# Altium integrated library NSC Amplifier.IntLib: 719 symbols (part 9 of 19)
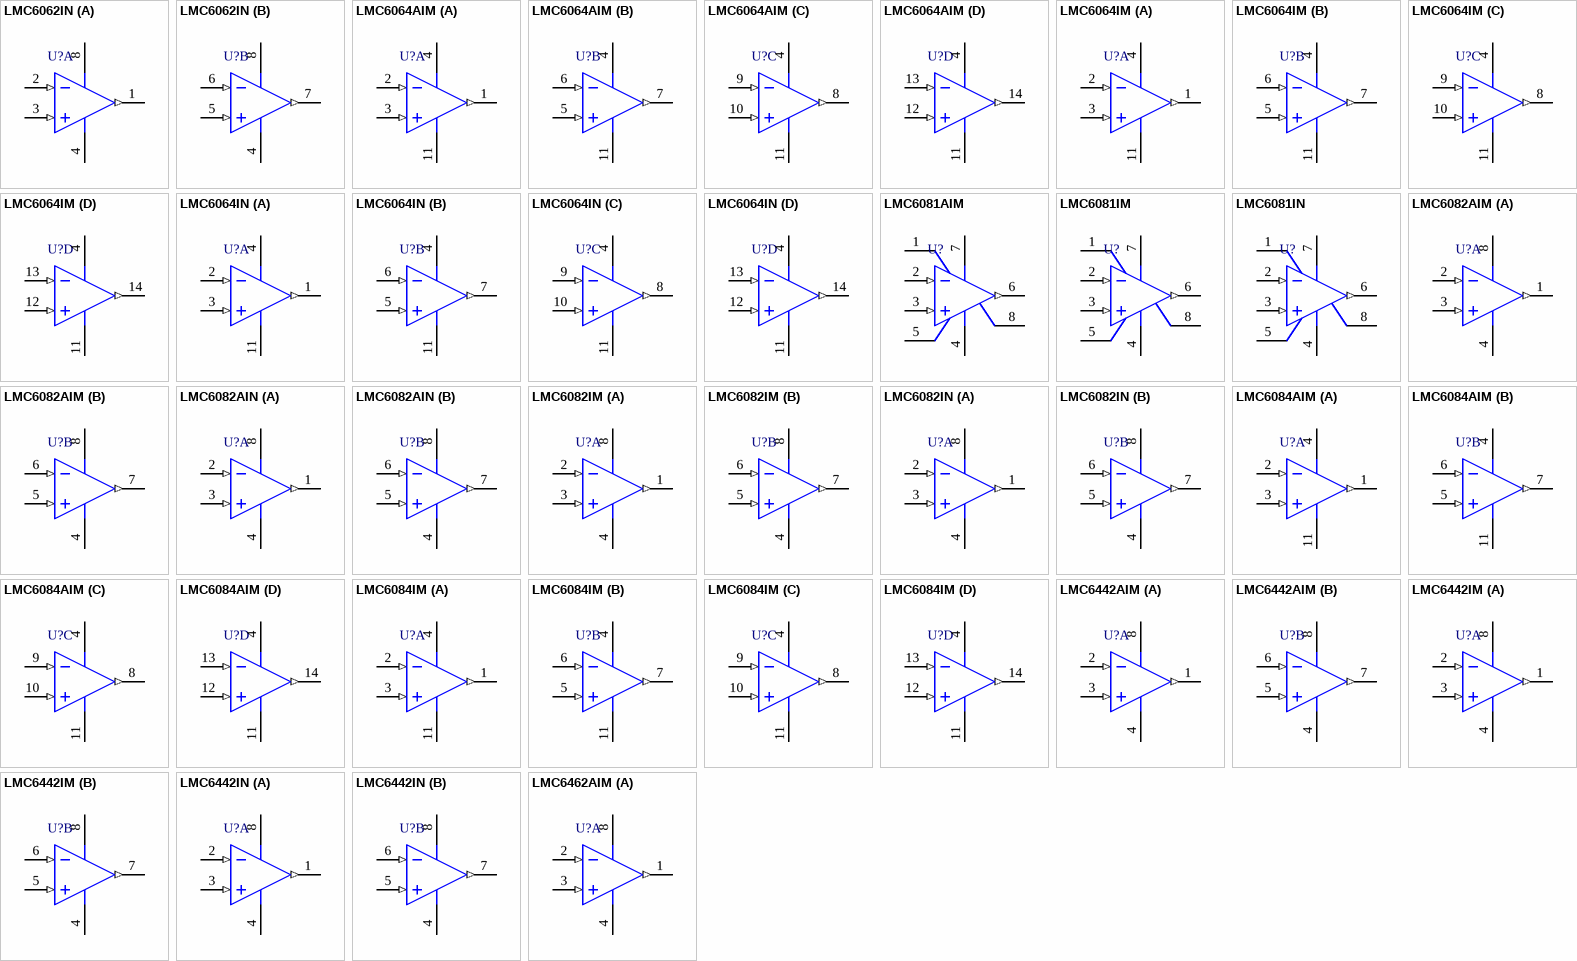
[diagram p46: symbols LMC6062IN to LMC6462AIM]

## LMC6062IN
designator U?
Precision CMOS Dual Micropower Operational Amplifier; PartNumber: LMC6062IN; Manufacturer: National Semiconductor; CompType: Amplifiers; PackageTopMarking: NSUZXYTT*LMC6062*IN; Published: 4-Dec-2008; LatestRevisionDate: 13-Jan-2009; LatestRevisionNote: Sim Model Added.; DatasheetVersion: Feb-2001; PackageVersion: revG, May-2006; PackageReference: N08E; Publisher: Altium Limited; PackageDescription: MDIP, .365 x .250 x .130in, 8 Lead, .100in Pitch; RoHS: Y; PinCount: 8; DigiKeyPartNumber: LMC6062IN-ND; Code_JEDEC: MS-001-BA; ComponentLink1Description: LMC6062 Datasheet; ComponentLink1URL: http://www.national.com/ds/LM/LMC6062.pdf; ComponentLink2Description: LMC6062 Web Page; ComponentLink2URL: http://www.national.com/pf/LM/LMC6062.html; ComponentLink3Description: N08E Package Page; ComponentLink3URL: http://www.national.com/packaging/folders/n08e.html
footprint N08E (DIP, 8-Leads, Row Spacing 7.62mm, Pitch 2.54mm, Body 9.91x6.35mm)
simulation model LMC6062B (SUBCKT)
pins on every part: 4 V- (power), 8 V+ (power)
part A pins: 1 OUTA (out), 2 INA- (in), 3 INA+ (in)
part B pins: 5 INB+ (in), 6 INB- (in), 7 OUTB (out)

## LMC6064AIM
designator U?
Precision CMOS Quad Micropower Operational Amplifier; PartNumber: LMC6064AIM; Manufacturer: National Semiconductor; CompType: Amplifiers; PackageTopMarking: NSUZXYTT*LMC6064*AIM; Published: 4-Dec-2008; LatestRevisionDate: 13-Jan-2009; LatestRevisionNote: Sim Model Added.; DatasheetVersion: Apr-2001; PackageVersion: revJ, Jan-1996; PackageReference: M14A; Publisher: Altium Limited; PackageDescription: Molded Package S.O., .150in Wide, 14 Lead; RoHS: O; PinCount: 14; DigiKeyPartNumber: LMC6064AIM-ND; Code_JEDEC: MS-012AB; Code_IPC: SOIC127P600-14; ComponentLink1Description: LMC6064 Datasheet; ComponentLink1URL: http://www.national.com/ds/LM/LMC6064.pdf; ComponentLink2Description: LMC6064 Web Page; ComponentLink2URL: http://www.national.com/pf/LM/LMC6064.html; ComponentLink3Description: M14A Package Page; ComponentLink3URL: http://www.national.com/packaging/folders/m14a.html
footprint M14A_N (SOIC, 14-Leads, Body 8.6x3.9mm, Pitch 1.27mm, IPC Medium Density)
footprint M14A_L (SOIC, 14-Leads, Body 8.6x3.9mm, Pitch 1.27mm, IPC High Density)
footprint M14A_M (SOIC, 14-Leads, Body 8.6x3.9mm, Pitch 1.27mm, IPC Low Density)
simulation model LMC6064A (SUBCKT)
pins on every part: 4 V+ (power), 11 V- (power)
part A pins: 1 OUT1 (out), 2 IN1- (in), 3 IN1+ (in)
part B pins: 5 IN2+ (in), 6 IN2- (in), 7 OUT2 (out)
part C pins: 8 OUT3 (out), 9 IN3- (in), 10 IN3+ (in)
part D pins: 12 IN4+ (in), 13 IN4- (in), 14 OUT4 (out)

## LMC6064IM
designator U?
Precision CMOS Quad Micropower Operational Amplifier; PartNumber: LMC6064IM; Manufacturer: National Semiconductor; CompType: Amplifiers; PackageTopMarking: NSUZXYTT*LMC6064IM; Published: 4-Dec-2008; LatestRevisionDate: 13-Jan-2009; LatestRevisionNote: Sim Model Added.; DatasheetVersion: Apr-2001; PackageVersion: revJ, Jan-1996; PackageReference: M14A; Publisher: Altium Limited; PackageDescription: Molded Package S.O., .150in Wide, 14 Lead; RoHS: Y; PinCount: 14; DigiKeyPartNumber: LMC6064IM-ND; Code_JEDEC: MS-012AB; Code_IPC: SOIC127P600-14; ComponentLink1Description: LMC6064 Datasheet; ComponentLink1URL: http://www.national.com/ds/LM/LMC6064.pdf; ComponentLink2Description: LMC6064 Web Page; ComponentLink2URL: http://www.national.com/pf/LM/LMC6064.html; ComponentLink3Description: M14A Package Page; ComponentLink3URL: http://www.national.com/packaging/folders/m14a.html
footprint M14A_N (SOIC, 14-Leads, Body 8.6x3.9mm, Pitch 1.27mm, IPC Medium Density)
footprint M14A_L (SOIC, 14-Leads, Body 8.6x3.9mm, Pitch 1.27mm, IPC High Density)
footprint M14A_M (SOIC, 14-Leads, Body 8.6x3.9mm, Pitch 1.27mm, IPC Low Density)
simulation model LMC6064B (SUBCKT)
pins on every part: 4 V+ (power), 11 V- (power)
part A pins: 1 OUT1 (out), 2 IN1- (in), 3 IN1+ (in)
part B pins: 5 IN2+ (in), 6 IN2- (in), 7 OUT2 (out)
part C pins: 8 OUT3 (out), 9 IN3- (in), 10 IN3+ (in)
part D pins: 12 IN4+ (in), 13 IN4- (in), 14 OUT4 (out)

## LMC6064IN
designator U?
Precision CMOS Quad Micropower Operational Amplifier; PartNumber: LMC6064IN; Manufacturer: National Semiconductor; CompType: Amplifiers; PackageTopMarking: NSUZXYYTTE#*LMC6064IN; Published: 4-Dec-2008; LatestRevisionDate: 13-Jan-2009; LatestRevisionNote: Sim Model Added.; DatasheetVersion: Apr-2001; PackageVersion: revG, May-2006; PackageReference: N14A; Publisher: Altium Limited; PackageDescription: MDIP, .750 x .250 x.130in, 14 Lead, .100in Pitch; RoHS: O; PinCount: 14; DigiKeyPartNumber: LMC6064IN-ND; Code_JEDEC: MS-001-AA; ComponentLink1Description: LMC6064 Datasheet; ComponentLink1URL: http://www.national.com/ds/LM/LMC6064.pdf; ComponentLink2Description: LMC6064 Web Page; ComponentLink2URL: http://www.national.com/pf/LM/LMC6064.html; ComponentLink3Description: N14A Package Page; ComponentLink3URL: http://www.national.com/packaging/folders/n14a.html
footprint N14A (DIP, 14-Leads, Row Spacing 7.62mm, Pitch 2.54mm, Body 19.56x6.35mm)
simulation model LMC6064B (SUBCKT)
pins on every part: 4 V+ (power), 11 V- (power)
part A pins: 1 OUT1 (out), 2 IN1- (in), 3 IN1+ (in)
part B pins: 5 IN2+ (in), 6 IN2- (in), 7 OUT2 (out)
part C pins: 8 OUT3 (out), 9 IN3- (in), 10 IN3+ (in)
part D pins: 12 IN4+ (in), 13 IN4- (in), 14 OUT4 (out)

## LMC6081AIM
designator U?
Precision CMOS Single Operational Amplifier; PartNumber: LMC6081AIM; Manufacturer: National Semiconductor; CompType: Amplifiers; PackageTopMarking: NSZXTT*LMC60*81AIM; Published: 4-Dec-2008; LatestRevisionDate: 13-Jan-2009; LatestRevisionNote: Sim Model Added.; DatasheetVersion: Aug-2000; PackageVersion: revL, Sep-2006; PackageReference: M08A; Publisher: Altium Limited; PackageDescription: SOIC Narrow, 4.9 x 3.9 x 1.45mm, 8 Lead, 1.27mm Pitch; RoHS: O; PinCount: 8; DigiKeyPartNumber: LMC6081AIM-ND; Code_JEDEC: MS-012-AA; Code_IPC: SOIC127P600-8; ComponentLink1Description: LMC6081 Datasheet; ComponentLink1URL: http://www.national.com/ds/LM/LMC6081.pdf; ComponentLink2Description: LMC6081 Web Page; ComponentLink2URL: http://www.national.com/pf/LM/LMC6081.html; ComponentLink3Description: M08A Package Page; ComponentLink3URL: http://www.national.com/packaging/folders/m08a.html
footprint M08A_N (SOIC, 8-Leads, Body 4.9x3.9mm, Pitch 1.27mm, IPC Medium Density)
footprint M08A_L (SOIC, 8-Leads, Body 4.9x3.9mm, Pitch 1.27mm, IPC High Density)
footprint M08A_M (SOIC, 8-Leads, Body 4.9x3.9mm, Pitch 1.27mm, IPC Low Density)
simulation model LMC6081A (SUBCKT)
pins: 1 NC, 2 IN- (in), 3 IN+ (in), 4 V- (power), 5 NC, 6 OUT (out), 7 V+ (power), 8 NC

## LMC6081IM
designator U?
Precision CMOS Single Operational Amplifier; PartNumber: LMC6081IM; Manufacturer: National Semiconductor; CompType: Amplifiers; PackageTopMarking: NSZXTT*LMC60*81IM; Published: 4-Dec-2008; LatestRevisionDate: 13-Jan-2009; LatestRevisionNote: Sim Model Added.; DatasheetVersion: Aug-2000; PackageVersion: revL, Sep-2006; PackageReference: M08A; Publisher: Altium Limited; PackageDescription: SOIC Narrow, 4.9 x 3.9 x 1.45mm, 8 Lead, 1.27mm Pitch; RoHS: Y; PinCount: 8; DigiKeyPartNumber: LMC6081IM-ND; Code_JEDEC: MS-012-AA; Code_IPC: SOIC127P600-8; ComponentLink1Description: LMC6081 Datasheet; ComponentLink1URL: http://www.national.com/ds/LM/LMC6081.pdf; ComponentLink2Description: LMC6081 Web Page; ComponentLink2URL: http://www.national.com/pf/LM/LMC6081.html; ComponentLink3Description: M08A Package Page; ComponentLink3URL: http://www.national.com/packaging/folders/m08a.html
footprint M08A_N (SOIC, 8-Leads, Body 4.9x3.9mm, Pitch 1.27mm, IPC Medium Density)
footprint M08A_L (SOIC, 8-Leads, Body 4.9x3.9mm, Pitch 1.27mm, IPC High Density)
footprint M08A_M (SOIC, 8-Leads, Body 4.9x3.9mm, Pitch 1.27mm, IPC Low Density)
simulation model LMC6081B (SUBCKT)
pins: 1 NC, 2 IN- (in), 3 IN+ (in), 4 V- (power), 5 NC, 6 OUT (out), 7 V+ (power), 8 NC

## LMC6081IN
designator U?
Precision CMOS Single Operational Amplifier; PartNumber: LMC6081IN; Manufacturer: National Semiconductor; CompType: Amplifiers; PackageTopMarking: NSUZXYTT*LMC6081*IN; Published: 4-Dec-2008; LatestRevisionDate: 13-Jan-2009; LatestRevisionNote: Sim Model Added.; DatasheetVersion: Aug-2000; PackageVersion: revG, May-2006; PackageReference: N08E; Publisher: Altium Limited; PackageDescription: MDIP, .365 x .250 x .130in, 8 Lead, .100in Pitch; RoHS: O; PinCount: 8; DigiKeyPartNumber: LMC6081IN-ND; Code_JEDEC: MS-001-BA; ComponentLink1Description: LMC6081 Datasheet; ComponentLink1URL: http://www.national.com/ds/LM/LMC6081.pdf; ComponentLink2Description: LMC6081 Web Page; ComponentLink2URL: http://www.national.com/pf/LM/LMC6081.html; ComponentLink3Description: N08E Package Page; ComponentLink3URL: http://www.national.com/packaging/folders/n08e.html
footprint N08E (DIP, 8-Leads, Row Spacing 7.62mm, Pitch 2.54mm, Body 9.91x6.35mm)
simulation model LMC6081B (SUBCKT)
pins: 1 NC, 2 IN- (in), 3 IN+ (in), 4 V- (power), 5 NC, 6 OUT (out), 7 V+ (power), 8 NC

## LMC6082AIM
designator U?
Precision CMOS Dual Operational Amplifier; PartNumber: LMC6082AIM; Manufacturer: National Semiconductor; CompType: Amplifiers; PackageTopMarking: NSZXTT*LMC60*82AIM; Published: 4-Dec-2008; LatestRevisionDate: 13-Jan-2009; LatestRevisionNote: Sim Model Added.; DatasheetVersion: Aug-2000; PackageVersion: revL, Sep-2006; PackageReference: M08A; Publisher: Altium Limited; PackageDescription: SOIC Narrow, 4.9 x 3.9 x 1.45mm, 8 Lead, 1.27mm Pitch; RoHS: O; PinCount: 8; DigiKeyPartNumber: LMC6082AIM-ND; Code_JEDEC: MS-012-AA; Code_IPC: SOIC127P600-8; ComponentLink1Description: LMC6082 Datasheet; ComponentLink1URL: http://www.national.com/ds/LM/LMC6082.pdf; ComponentLink2Description: LMC6082 Web Page; ComponentLink2URL: http://www.national.com/pf/LM/LMC6082.html; ComponentLink3Description: M08A Package Page; ComponentLink3URL: http://www.national.com/packaging/folders/m08a.html
footprint M08A_N (SOIC, 8-Leads, Body 4.9x3.9mm, Pitch 1.27mm, IPC Medium Density)
footprint M08A_L (SOIC, 8-Leads, Body 4.9x3.9mm, Pitch 1.27mm, IPC High Density)
footprint M08A_M (SOIC, 8-Leads, Body 4.9x3.9mm, Pitch 1.27mm, IPC Low Density)
simulation model LMC6082A (SUBCKT)
pins on every part: 4 V- (power), 8 V+ (power)
part A pins: 1 OUTA (out), 2 INA- (in), 3 INA+ (in)
part B pins: 5 INB+ (in), 6 INB- (in), 7 OUTB (out)

## LMC6082AIN
designator U?
Precision CMOS Dual Operational Amplifier; PartNumber: LMC6082AIN; Manufacturer: National Semiconductor; CompType: Amplifiers; PackageTopMarking: NSUZXYTT*LMC6082*AIN; Published: 4-Dec-2008; LatestRevisionDate: 13-Jan-2009; LatestRevisionNote: Sim Model Added.; DatasheetVersion: Aug-2000; PackageVersion: revG, May-2006; PackageReference: N08E; Publisher: Altium Limited; PackageDescription: MDIP, .365 x .250 x .130in, 8 Lead, .100in Pitch; RoHS: Y; PinCount: 8; DigiKeyPartNumber: LMC6082AIN-ND; Code_JEDEC: MS-001-BA; ComponentLink1Description: LMC6082 Datasheet; ComponentLink1URL: http://www.national.com/ds/LM/LMC6082.pdf; ComponentLink2Description: LMC6082 Web Page; ComponentLink2URL: http://www.national.com/pf/LM/LMC6082.html; ComponentLink3Description: N08E Package Page; ComponentLink3URL: http://www.national.com/packaging/folders/n08e.html
footprint N08E (DIP, 8-Leads, Row Spacing 7.62mm, Pitch 2.54mm, Body 9.91x6.35mm)
simulation model LMC6082A (SUBCKT)
pins on every part: 4 V- (power), 8 V+ (power)
part A pins: 1 OUTA (out), 2 INA- (in), 3 INA+ (in)
part B pins: 5 INB+ (in), 6 INB- (in), 7 OUTB (out)

## LMC6082IM
designator U?
Precision CMOS Dual Operational Amplifier; PartNumber: LMC6082IM; Manufacturer: National Semiconductor; CompType: Amplifiers; PackageTopMarking: NSZXTT*LMC60*82IM; Published: 4-Dec-2008; LatestRevisionDate: 13-Jan-2009; LatestRevisionNote: Sim Model Added.; DatasheetVersion: Aug-2000; PackageVersion: revL, Sep-2006; PackageReference: M08A; Publisher: Altium Limited; PackageDescription: SOIC Narrow, 4.9 x 3.9 x 1.45mm, 8 Lead, 1.27mm Pitch; RoHS: O; PinCount: 8; DigiKeyPartNumber: LMC6082IM-ND; Code_JEDEC: MS-012-AA; Code_IPC: SOIC127P600-8; ComponentLink1Description: LMC6082 Datasheet; ComponentLink1URL: http://www.national.com/ds/LM/LMC6082.pdf; ComponentLink2Description: LMC6082 Web Page; ComponentLink2URL: http://www.national.com/pf/LM/LMC6082.html; ComponentLink3Description: M08A Package Page; ComponentLink3URL: http://www.national.com/packaging/folders/m08a.html
footprint M08A_N (SOIC, 8-Leads, Body 4.9x3.9mm, Pitch 1.27mm, IPC Medium Density)
footprint M08A_L (SOIC, 8-Leads, Body 4.9x3.9mm, Pitch 1.27mm, IPC High Density)
footprint M08A_M (SOIC, 8-Leads, Body 4.9x3.9mm, Pitch 1.27mm, IPC Low Density)
simulation model LMC6082B (SUBCKT)
pins on every part: 4 V- (power), 8 V+ (power)
part A pins: 1 OUTA (out), 2 INA- (in), 3 INA+ (in)
part B pins: 5 INB+ (in), 6 INB- (in), 7 OUTB (out)

## LMC6082IN
designator U?
Precision CMOS Dual Operational Amplifier; PartNumber: LMC6082IN; Manufacturer: National Semiconductor; CompType: Amplifiers; PackageTopMarking: NSUZXYTT*LMC6082*IN; Published: 4-Dec-2008; LatestRevisionDate: 13-Jan-2009; LatestRevisionNote: Sim Model Added.; DatasheetVersion: Aug-2000; PackageVersion: revG, May-2006; PackageReference: N08E; Publisher: Altium Limited; PackageDescription: MDIP, .365 x .250 x .130in, 8 Lead, .100in Pitch; RoHS: O; PinCount: 8; DigiKeyPartNumber: LMC6082IN-ND; Code_JEDEC: MS-001-BA; ComponentLink1Description: LMC6082 Datasheet; ComponentLink1URL: http://www.national.com/ds/LM/LMC6082.pdf; ComponentLink2Description: LMC6082 Web Page; ComponentLink2URL: http://www.national.com/pf/LM/LMC6082.html; ComponentLink3Description: N08E Package Page; ComponentLink3URL: http://www.national.com/packaging/folders/n08e.html
footprint N08E (DIP, 8-Leads, Row Spacing 7.62mm, Pitch 2.54mm, Body 9.91x6.35mm)
simulation model LMC6082B (SUBCKT)
pins on every part: 4 V- (power), 8 V+ (power)
part A pins: 1 OUTA (out), 2 INA- (in), 3 INA+ (in)
part B pins: 5 INB+ (in), 6 INB- (in), 7 OUTB (out)

## LMC6084AIM
designator U?
Precision CMOS Quad Operational Amplifier; PartNumber: LMC6084AIM; Manufacturer: National Semiconductor; CompType: Amplifiers; PackageTopMarking: NSUZXYTT*LMC6084*AIM; Published: 4-Dec-2008; LatestRevisionDate: 13-Jan-2009; LatestRevisionNote: Sim Model Added.; DatasheetVersion: Aug-2000; PackageVersion: revJ, Jan-1996; PackageReference: M14A; Publisher: Altium Limited; PackageDescription: Molded Package S.O., .150in Wide, 14 Lead; RoHS: O; PinCount: 14; DigiKeyPartNumber: LMC6084AIM-ND; Code_JEDEC: MS-012AB; Code_IPC: SOIC127P600-14; ComponentLink1Description: LMC6084 Datasheet; ComponentLink1URL: http://www.national.com/ds/LM/LMC6084.pdf; ComponentLink2Description: LMC6084 Web Page; ComponentLink2URL: http://www.national.com/pf/LM/LMC6084.html; ComponentLink3Description: M14A Package Page; ComponentLink3URL: http://www.national.com/packaging/folders/m14a.html
footprint M14A_N (SOIC, 14-Leads, Body 8.6x3.9mm, Pitch 1.27mm, IPC Medium Density)
footprint M14A_L (SOIC, 14-Leads, Body 8.6x3.9mm, Pitch 1.27mm, IPC High Density)
footprint M14A_M (SOIC, 14-Leads, Body 8.6x3.9mm, Pitch 1.27mm, IPC Low Density)
simulation model LMC6084A (SUBCKT)
pins on every part: 4 V+ (power), 11 V- (power)
part A pins: 1 OUT1 (out), 2 IN1- (in), 3 IN1+ (in)
part B pins: 5 IN2+ (in), 6 IN2- (in), 7 OUT2 (out)
part C pins: 8 OUT3 (out), 9 IN3- (in), 10 IN3+ (in)
part D pins: 12 IN4+ (in), 13 IN4- (in), 14 OUT4 (out)

## LMC6084IM
designator U?
Precision CMOS Quad Operational Amplifier; PartNumber: LMC6084IM; Manufacturer: National Semiconductor; CompType: Amplifiers; PackageTopMarking: NSUZXYTT*LMC6084IM; Published: 4-Dec-2008; LatestRevisionDate: 13-Jan-2009; LatestRevisionNote: Sim Model Added.; DatasheetVersion: Aug-2000; PackageVersion: revJ, Jan-1996; PackageReference: M14A; Publisher: Altium Limited; PackageDescription: Molded Package S.O., .150in Wide, 14 Lead; RoHS: O; PinCount: 14; DigiKeyPartNumber: LMC6084IM-ND; Code_JEDEC: MS-012AB; Code_IPC: SOIC127P600-14; ComponentLink1Description: LMC6084 Datasheet; ComponentLink1URL: http://www.national.com/ds/LM/LMC6084.pdf; ComponentLink2Description: LMC6084 Web Page; ComponentLink2URL: http://www.national.com/pf/LM/LMC6084.html; ComponentLink3Description: M14A Package Page; ComponentLink3URL: http://www.national.com/packaging/folders/m14a.html
footprint M14A_N (SOIC, 14-Leads, Body 8.6x3.9mm, Pitch 1.27mm, IPC Medium Density)
footprint M14A_L (SOIC, 14-Leads, Body 8.6x3.9mm, Pitch 1.27mm, IPC High Density)
footprint M14A_M (SOIC, 14-Leads, Body 8.6x3.9mm, Pitch 1.27mm, IPC Low Density)
simulation model LMC6084B (SUBCKT)
pins on every part: 4 V+ (power), 11 V- (power)
part A pins: 1 OUT1 (out), 2 IN1- (in), 3 IN1+ (in)
part B pins: 5 IN2+ (in), 6 IN2- (in), 7 OUT2 (out)
part C pins: 8 OUT3 (out), 9 IN3- (in), 10 IN3+ (in)
part D pins: 12 IN4+ (in), 13 IN4- (in), 14 OUT4 (out)

## LMC6442AIM
designator U?
Dual Micropower Rail-to-Rail Output Single Supply Operational Amplifier; PartNumber: LMC6442AIM; Manufacturer: National Semiconductor; CompType: Amplifiers; PackageTopMarking: NSZXTT*LMC64*42AIM; Published: 4-Dec-2008; LatestRevisionDate: 13-Jan-2009; LatestRevisionNote: Sim Model Added.; DatasheetVersion: Mar-2005; PackageVersion: revL, Sep-2006; PackageReference: M08A; Publisher: Altium Limited; PackageDescription: SOIC Narrow, 4.9 x 3.9 x 1.45mm, 8 Lead, 1.27mm Pitch; RoHS: O; PinCount: 8; DigiKeyPartNumber: LMC6442AIMMCT-ND; Code_JEDEC: MS-012-AA; Code_IPC: SOIC127P600-8; ComponentLink1Description: LMC6442 Datasheet; ComponentLink1URL: http://www.national.com/ds/LM/LMC6442.pdf; ComponentLink2Description: LMC6442 Web Page; ComponentLink2URL: http://www.national.com/pf/LM/LMC6442.html; ComponentLink3Description: M08A Package Page; ComponentLink3URL: http://www.national.com/packaging/folders/m08a.html
footprint M08A_N (SOIC, 8-Leads, Body 4.9x3.9mm, Pitch 1.27mm, IPC Medium Density)
footprint M08A_L (SOIC, 8-Leads, Body 4.9x3.9mm, Pitch 1.27mm, IPC High Density)
footprint M08A_M (SOIC, 8-Leads, Body 4.9x3.9mm, Pitch 1.27mm, IPC Low Density)
simulation model LMC6442A (SUBCKT)
pins on every part: 4 V- (power), 8 V+ (power)
part A pins: 1 OUTA (out), 2 INA- (in), 3 INA+ (in)
part B pins: 5 INB+ (in), 6 INB- (in), 7 OUTB (out)

## LMC6442IM
designator U?
Dual Micropower Rail-to-Rail Output Single Supply Operational Amplifier; PartNumber: LMC6442IM; Manufacturer: National Semiconductor; CompType: Amplifiers; PackageTopMarking: NSZXTT*LMC64*42IM; Published: 4-Dec-2008; LatestRevisionDate: 13-Jan-2009; LatestRevisionNote: Sim Model Added.; DatasheetVersion: Mar-2005; PackageVersion: revL, Sep-2006; PackageReference: M08A; Publisher: Altium Limited; PackageDescription: SOIC Narrow, 4.9 x 3.9 x 1.45mm, 8 Lead, 1.27mm Pitch; RoHS: O; PinCount: 8; DigiKeyPartNumber: LMC6442IMMCT-ND; Code_JEDEC: MS-012-AA; Code_IPC: SOIC127P600-8; ComponentLink1Description: LMC6442 Datasheet; ComponentLink1URL: http://www.national.com/ds/LM/LMC6442.pdf; ComponentLink2Description: LMC6442 Web Page; ComponentLink2URL: http://www.national.com/pf/LM/LMC6442.html; ComponentLink3Description: M08A Package Page; ComponentLink3URL: http://www.national.com/packaging/folders/m08a.html
footprint M08A_N (SOIC, 8-Leads, Body 4.9x3.9mm, Pitch 1.27mm, IPC Medium Density)
footprint M08A_L (SOIC, 8-Leads, Body 4.9x3.9mm, Pitch 1.27mm, IPC High Density)
footprint M08A_M (SOIC, 8-Leads, Body 4.9x3.9mm, Pitch 1.27mm, IPC Low Density)
simulation model LMC6442B (SUBCKT)
pins on every part: 4 V- (power), 8 V+ (power)
part A pins: 1 OUTA (out), 2 INA- (in), 3 INA+ (in)
part B pins: 5 INB+ (in), 6 INB- (in), 7 OUTB (out)

## LMC6442IN
designator U?
Dual Micropower Rail-to-Rail Output Single Supply Operational Amplifier; PartNumber: LMC6442IN; Manufacturer: National Semiconductor; CompType: Amplifiers; PackageTopMarking: NSUZXYTT*LMC6442*IN; Published: 4-Dec-2008; LatestRevisionDate: 13-Jan-2009; LatestRevisionNote: Sim Model Added.; DatasheetVersion: Mar-2005; PackageVersion: revG, May-2006; PackageReference: N08E; Publisher: Altium Limited; PackageDescription: MDIP, .365 x .250 x .130in, 8 Lead, .100in Pitch; RoHS: Y; PinCount: 8; DigiKeyPartNumber: LMC6442IN-ND; Code_JEDEC: MS-001-BA; ComponentLink1Description: LMC6442 Datasheet; ComponentLink1URL: http://www.national.com/ds/LM/LMC6442.pdf; ComponentLink2Description: LMC6442 Web Page; ComponentLink2URL: http://www.national.com/pf/LM/LMC6442.html; ComponentLink3Description: N08E Package Page; ComponentLink3URL: http://www.national.com/packaging/folders/n08e.html
footprint N08E (DIP, 8-Leads, Row Spacing 7.62mm, Pitch 2.54mm, Body 9.91x6.35mm)
simulation model LMC6442B (SUBCKT)
pins on every part: 4 V- (power), 8 V+ (power)
part A pins: 1 OUTA (out), 2 INA- (in), 3 INA+ (in)
part B pins: 5 INB+ (in), 6 INB- (in), 7 OUTB (out)

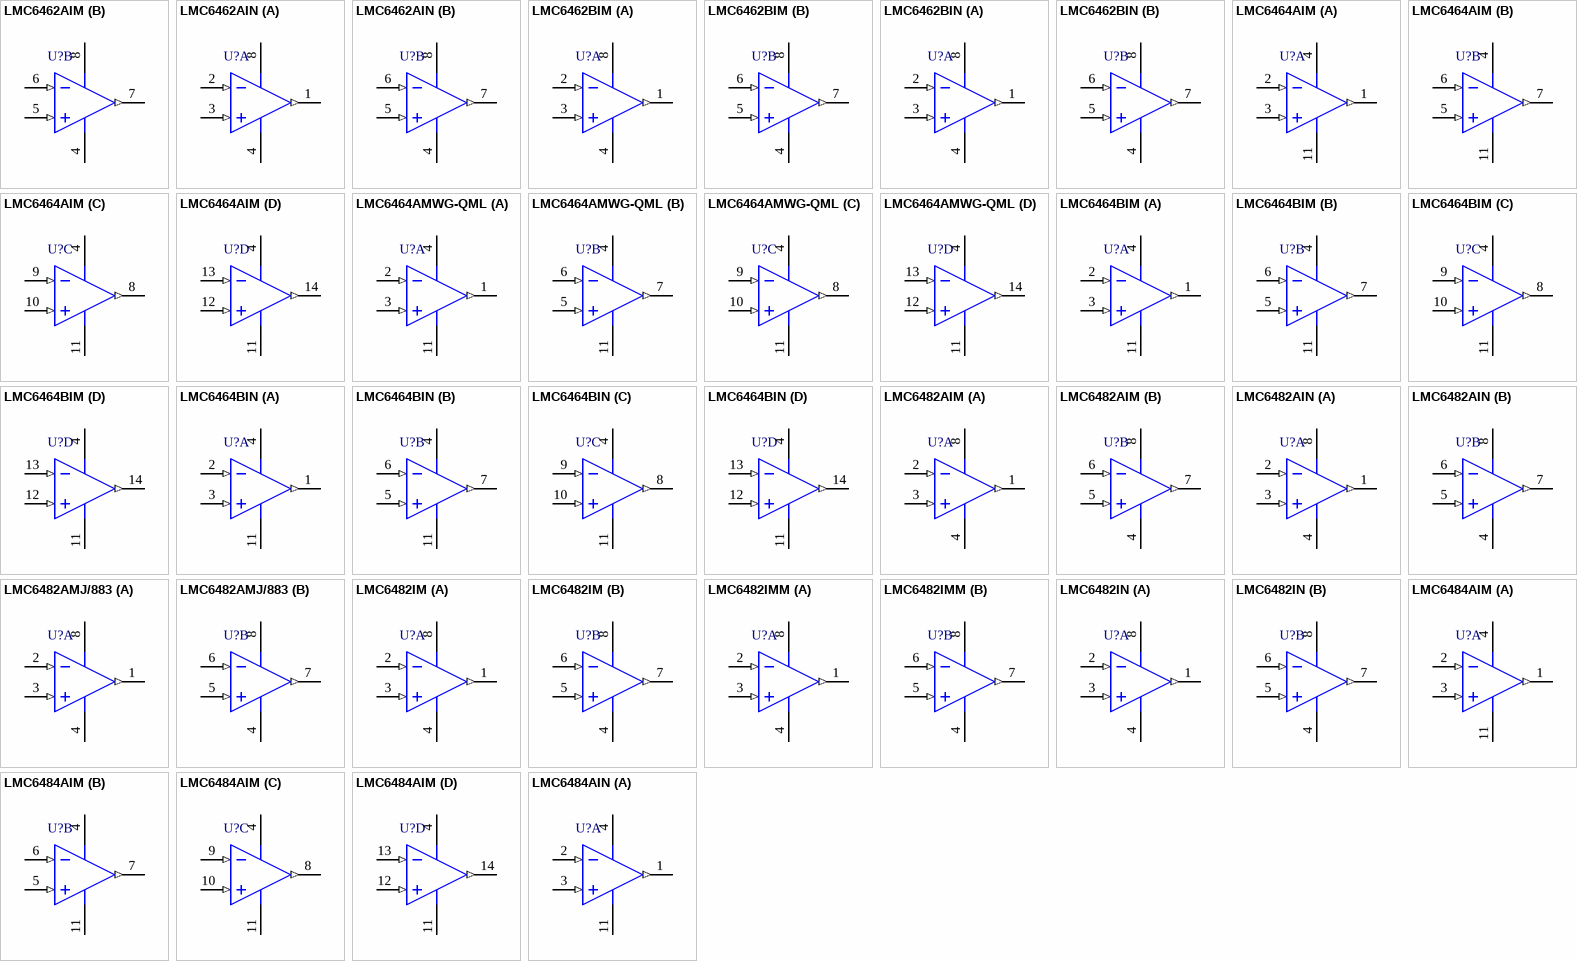
[diagram p21: symbols LMC6462AIM to LMC6484AIN]

## LMC6462AIM
designator U?
Dual Micropower, Rail-to-Rail Input and Output CMOS Operational Amplifier; PartNumber: LMC6462AIM; Manufacturer: National Semiconductor; CompType: Amplifiers; PackageTopMarking: NSZXTT*LMC64*62AIM; Published: 4-Dec-2008; LatestRevisionDate: 13-Jan-2009; LatestRevisionNote: Sim Model Added.; DatasheetVersion: Feb-2004; PackageVersion: revL, Sep-2006; PackageReference: M08A; Publisher: Altium Limited; PackageDescription: SOIC Narrow, 4.9 x 3.9 x 1.45mm, 8 Lead, 1.27mm Pitch; RoHS: O; PinCount: 8; DigiKeyPartNumber: LMC6462AIM-ND; Code_JEDEC: MS-012-AA; Code_IPC: SOIC127P600-8; ComponentLink1Description: LMC6462 Datasheet; ComponentLink1URL: http://www.national.com/ds/LM/LMC6462.pdf; ComponentLink2Description: LMC6462 Web Page; ComponentLink2URL: http://www.national.com/pf/LM/LMC6462.html; ComponentLink3Description: M08A Package Page; ComponentLink3URL: http://www.national.com/packaging/folders/m08a.html
footprint M08A_N (SOIC, 8-Leads, Body 4.9x3.9mm, Pitch 1.27mm, IPC Medium Density)
footprint M08A_L (SOIC, 8-Leads, Body 4.9x3.9mm, Pitch 1.27mm, IPC High Density)
footprint M08A_M (SOIC, 8-Leads, Body 4.9x3.9mm, Pitch 1.27mm, IPC Low Density)
simulation model LMC6462A (SUBCKT)
pins on every part: 4 V- (power), 8 V+ (power)
part A pins: 1 OUTA (out), 2 INA- (in), 3 INA+ (in)
part B pins: 5 INB+ (in), 6 INB- (in), 7 OUTB (out)

## LMC6462AIN
designator U?
Dual Micropower, Rail-to-Rail Input and Output CMOS Operational Amplifier; PartNumber: LMC6462AIN; Manufacturer: National Semiconductor; CompType: Amplifiers; PackageTopMarking: NSUZXYTT*LMC6462*AIN; Published: 4-Dec-2008; LatestRevisionDate: 13-Jan-2009; LatestRevisionNote: Sim Model Added.; DatasheetVersion: Feb-2004; PackageVersion: revG, May-2006; PackageReference: N08E; Publisher: Altium Limited; PackageDescription: MDIP, .365 x .250 x .130in, 8 Lead, .100in Pitch; RoHS: O; PinCount: 8; DigiKeyPartNumber: LMC6462AIN-ND; Code_JEDEC: MS-001-BA; ComponentLink1Description: LMC6462 Datasheet; ComponentLink1URL: http://www.national.com/ds/LM/LMC6462.pdf; ComponentLink2Description: LMC6462 Web Page; ComponentLink2URL: http://www.national.com/pf/LM/LMC6462.html; ComponentLink3Description: N08E Package Page; ComponentLink3URL: http://www.national.com/packaging/folders/n08e.html
footprint N08E (DIP, 8-Leads, Row Spacing 7.62mm, Pitch 2.54mm, Body 9.91x6.35mm)
simulation model LMC6462A (SUBCKT)
pins on every part: 4 V- (power), 8 V+ (power)
part A pins: 1 OUTA (out), 2 INA- (in), 3 INA+ (in)
part B pins: 5 INB+ (in), 6 INB- (in), 7 OUTB (out)

## LMC6462BIM
designator U?
Dual Micropower, Rail-to-Rail Input and Output CMOS Operational Amplifier; PartNumber: LMC6462BIM; Manufacturer: National Semiconductor; CompType: Amplifiers; PackageTopMarking: NSZXTT*LMC64*62BIM; Published: 4-Dec-2008; LatestRevisionDate: 13-Jan-2009; LatestRevisionNote: Sim Model Added.; DatasheetVersion: Feb-2004; PackageVersion: revL, Sep-2006; PackageReference: M08A; Publisher: Altium Limited; PackageDescription: SOIC Narrow, 4.9 x 3.9 x 1.45mm, 8 Lead, 1.27mm Pitch; RoHS: Y; PinCount: 8; DigiKeyPartNumber: LMC6462BIM-ND; Code_JEDEC: MS-012-AA; Code_IPC: SOIC127P600-8; ComponentLink1Description: LMC6462 Datasheet; ComponentLink1URL: http://www.national.com/ds/LM/LMC6462.pdf; ComponentLink2Description: LMC6462 Web Page; ComponentLink2URL: http://www.national.com/pf/LM/LMC6462.html; ComponentLink3Description: M08A Package Page; ComponentLink3URL: http://www.national.com/packaging/folders/m08a.html
footprint M08A_N (SOIC, 8-Leads, Body 4.9x3.9mm, Pitch 1.27mm, IPC Medium Density)
footprint M08A_L (SOIC, 8-Leads, Body 4.9x3.9mm, Pitch 1.27mm, IPC High Density)
footprint M08A_M (SOIC, 8-Leads, Body 4.9x3.9mm, Pitch 1.27mm, IPC Low Density)
simulation model LMC6462B (SUBCKT)
pins on every part: 4 V- (power), 8 V+ (power)
part A pins: 1 OUTA (out), 2 INA- (in), 3 INA+ (in)
part B pins: 5 INB+ (in), 6 INB- (in), 7 OUTB (out)

## LMC6462BIN
designator U?
Dual Micropower, Rail-to-Rail Input and Output CMOS Operational Amplifier; PartNumber: LMC6462BIN; Manufacturer: National Semiconductor; CompType: Amplifiers; PackageTopMarking: NSUZXYTT*LMC6462*BIN; Published: 4-Dec-2008; LatestRevisionDate: 13-Jan-2009; LatestRevisionNote: Sim Model Added.; DatasheetVersion: Feb-2004; PackageVersion: revG, May-2006; PackageReference: N08E; Publisher: Altium Limited; PackageDescription: MDIP, .365 x .250 x .130in, 8 Lead, .100in Pitch; RoHS: O; PinCount: 8; DigiKeyPartNumber: LMC6462BIN-ND; Code_JEDEC: MS-001-BA; ComponentLink1Description: LMC6462 Datasheet; ComponentLink1URL: http://www.national.com/ds/LM/LMC6462.pdf; ComponentLink2Description: LMC6462 Web Page; ComponentLink2URL: http://www.national.com/pf/LM/LMC6462.html; ComponentLink3Description: N08E Package Page; ComponentLink3URL: http://www.national.com/packaging/folders/n08e.html
footprint N08E (DIP, 8-Leads, Row Spacing 7.62mm, Pitch 2.54mm, Body 9.91x6.35mm)
simulation model LMC6462B (SUBCKT)
pins on every part: 4 V- (power), 8 V+ (power)
part A pins: 1 OUTA (out), 2 INA- (in), 3 INA+ (in)
part B pins: 5 INB+ (in), 6 INB- (in), 7 OUTB (out)

## LMC6464AIM
designator U?
Quad Micropower, Rail-to-Rail Input and Output CMOS Operational Amplifier; PartNumber: LMC6464AIM; Manufacturer: National Semiconductor; CompType: Amplifiers; PackageTopMarking: NSUZXYTT*LMC6464*AIM; Published: 4-Dec-2008; LatestRevisionDate: 13-Jan-2009; LatestRevisionNote: Sim Model Added.; DatasheetVersion: Feb-2004; PackageVersion: revJ, Jan-1996; PackageReference: M14A; Publisher: Altium Limited; PackageDescription: Molded Package S.O., .150in Wide, 14 Lead; RoHS: O; PinCount: 14; DigiKeyPartNumber: LMC6464AIM-ND; Code_JEDEC: MS-012AB; Code_IPC: SOIC127P600-14; ComponentLink1Description: LMC6464 Datasheet; ComponentLink1URL: http://www.national.com/ds/LM/LMC6464.pdf; ComponentLink2Description: LMC6464 Web Page; ComponentLink2URL: http://www.national.com/pf/LM/LMC6464.html; ComponentLink3Description: M14A Package Page; ComponentLink3URL: http://www.national.com/packaging/folders/m14a.html
footprint M14A_N (SOIC, 14-Leads, Body 8.6x3.9mm, Pitch 1.27mm, IPC Medium Density)
footprint M14A_L (SOIC, 14-Leads, Body 8.6x3.9mm, Pitch 1.27mm, IPC High Density)
footprint M14A_M (SOIC, 14-Leads, Body 8.6x3.9mm, Pitch 1.27mm, IPC Low Density)
simulation model LMC6464A (SUBCKT)
pins on every part: 4 V+ (power), 11 V- (power)
part A pins: 1 OUTA (out), 2 INA- (in), 3 INA+ (in)
part B pins: 5 INB+ (in), 6 INB- (in), 7 OUTB (out)
part C pins: 8 OUTC (out), 9 INC- (in), 10 INC+ (in)
part D pins: 12 IND+ (in), 13 IND- (in), 14 OUTD (out)

## LMC6464AMWG-QML
designator U?
Quad Micropower, Rail-to-Rail Input and Output CMOS Operational Amplifier; PartNumber: LMC6464AMWG-QML; Manufacturer: National Semiconductor; CompType: Amplifiers; PackageTopMarking: NSZSSXXYYA*LMC6464AMWG*-QML 5962-*9560302QXA Q; Published: 4-Dec-2008; DatasheetVersion: Feb-2004; PackageVersion: revD, Jul-2007; PackageReference: WG14A; Publisher: Altium Limited; PackageDescription: Cerpack, .390 x .250 x .070in, 14 Lead, .050in Pitch, Gull Wing; RoHS: N; PinCount: 14; ComponentLink1Description: LMC6464 Datasheet; ComponentLink1URL: http://www.national.com/ds/LM/LMC6464.pdf; ComponentLink2Description: LMC6464 Web Page; ComponentLink2URL: http://www.national.com/pf/LM/LMC6464.html; ComponentLink3Description: WG14A Package Page; ComponentLink3URL: http://www.national.com/packaging/folders/wg14a.html
footprint WG14A_N (CERPACK, 14-Leads, Body 9.9x6.5mm, Pitch 1.27mm, IPC Medium Density)
footprint WG14A_L (CERPACK, 14-Leads, Body 9.9x6.5mm, Pitch 1.27mm, IPC High Density)
footprint WG14A_M (CERPACK, 14-Leads, Body 9.9x6.5mm, Pitch 1.27mm, IPC Low Density)
pins on every part: 4 V+ (power), 11 V- (power)
part A pins: 1 OUTA (out), 2 INA- (in), 3 INA+ (in)
part B pins: 5 INB+ (in), 6 INB- (in), 7 OUTB (out)
part C pins: 8 OUTC (out), 9 INC- (in), 10 INC+ (in)
part D pins: 12 IND+ (in), 13 IND- (in), 14 OUTD (out)

## LMC6464BIM
designator U?
Quad Micropower, Rail-to-Rail Input and Output CMOS Operational Amplifier; PartNumber: LMC6464BIM; Manufacturer: National Semiconductor; CompType: Amplifiers; PackageTopMarking: NSUZXYTT*LMC6464*BIM; Published: 4-Dec-2008; LatestRevisionDate: 13-Jan-2009; LatestRevisionNote: Sim Model Added.; DatasheetVersion: Feb-2004; PackageVersion: revJ, Jan-1996; PackageReference: M14A; Publisher: Altium Limited; PackageDescription: Molded Package S.O., .150in Wide, 14 Lead; RoHS: O; PinCount: 14; DigiKeyPartNumber: LMC6464BIM-ND; Code_JEDEC: MS-012AB; Code_IPC: SOIC127P600-14; ComponentLink1Description: LMC6464 Datasheet; ComponentLink1URL: http://www.national.com/ds/LM/LMC6464.pdf; ComponentLink2Description: LMC6464 Web Page; ComponentLink2URL: http://www.national.com/pf/LM/LMC6464.html; ComponentLink3Description: M14A Package Page; ComponentLink3URL: http://www.national.com/packaging/folders/m14a.html
footprint M14A_N (SOIC, 14-Leads, Body 8.6x3.9mm, Pitch 1.27mm, IPC Medium Density)
footprint M14A_L (SOIC, 14-Leads, Body 8.6x3.9mm, Pitch 1.27mm, IPC High Density)
footprint M14A_M (SOIC, 14-Leads, Body 8.6x3.9mm, Pitch 1.27mm, IPC Low Density)
simulation model LMC6464B (SUBCKT)
pins on every part: 4 V+ (power), 11 V- (power)
part A pins: 1 OUTA (out), 2 INA- (in), 3 INA+ (in)
part B pins: 5 INB+ (in), 6 INB- (in), 7 OUTB (out)
part C pins: 8 OUTC (out), 9 INC- (in), 10 INC+ (in)
part D pins: 12 IND+ (in), 13 IND- (in), 14 OUTD (out)

## LMC6464BIN
designator U?
Quad Micropower, Rail-to-Rail Input and Output CMOS Operational Amplifier; PartNumber: LMC6464BIN; Manufacturer: National Semiconductor; CompType: Amplifiers; PackageTopMarking: NSUZXYYTTE#*LMC6464BIN; Published: 4-Dec-2008; LatestRevisionDate: 13-Jan-2009; LatestRevisionNote: Sim Model Added.; DatasheetVersion: Feb-2004; PackageVersion: revG, May-2006; PackageReference: N14A; Publisher: Altium Limited; PackageDescription: MDIP, .750 x .250 x.130in, 14 Lead, .100in Pitch; RoHS: O; PinCount: 14; DigiKeyPartNumber: LMC6464BIN-ND; Code_JEDEC: MS-001-AA; ComponentLink1Description: LMC6464 Datasheet; ComponentLink1URL: http://www.national.com/ds/LM/LMC6464.pdf; ComponentLink2Description: LMC6464 Web Page; ComponentLink2URL: http://www.national.com/pf/LM/LMC6464.html; ComponentLink3Description: N14A Package Page; ComponentLink3URL: http://www.national.com/packaging/folders/n14a.html
footprint N14A (DIP, 14-Leads, Row Spacing 7.62mm, Pitch 2.54mm, Body 19.56x6.35mm)
simulation model LMC6464B (SUBCKT)
pins on every part: 4 V+ (power), 11 V- (power)
part A pins: 1 OUTA (out), 2 INA- (in), 3 INA+ (in)
part B pins: 5 INB+ (in), 6 INB- (in), 7 OUTB (out)
part C pins: 8 OUTC (out), 9 INC- (in), 10 INC+ (in)
part D pins: 12 IND+ (in), 13 IND- (in), 14 OUTD (out)

## LMC6482AIM
designator U?
CMOS Dual Rail-to-Rail Input and Output Operational Amplifier; PartNumber: LMC6482AIM; Manufacturer: National Semiconductor; CompType: Amplifiers; PackageTopMarking: NSZXTT*LMC64*82AIM; Published: 4-Dec-2008; LatestRevisionDate: 13-Jan-2009; LatestRevisionNote: Sim Model Added.; DatasheetVersion: Sep-2003; PackageVersion: revL, Sep-2006; PackageReference: M08A; Publisher: Altium Limited; PackageDescription: SOIC Narrow, 4.9 x 3.9 x 1.45mm, 8 Lead, 1.27mm Pitch; RoHS: O; PinCount: 8; DigiKeyPartNumber: LMC6482AIM-ND; Code_JEDEC: MS-012-AA; Code_IPC: SOIC127P600-8; ComponentLink1Description: LMC6482 Datasheet; ComponentLink1URL: http://www.national.com/ds/LM/LMC6482.pdf; ComponentLink2Description: LMC6482 Web Page; ComponentLink2URL: http://www.national.com/pf/LM/LMC6482.html; ComponentLink3Description: M08A Package Page; ComponentLink3URL: http://www.national.com/packaging/folders/m08a.html
footprint M08A_N (SOIC, 8-Leads, Body 4.9x3.9mm, Pitch 1.27mm, IPC Medium Density)
footprint M08A_L (SOIC, 8-Leads, Body 4.9x3.9mm, Pitch 1.27mm, IPC High Density)
footprint M08A_M (SOIC, 8-Leads, Body 4.9x3.9mm, Pitch 1.27mm, IPC Low Density)
simulation model LMC6482A (SUBCKT)
pins on every part: 4 V- (power), 8 V+ (power)
part A pins: 1 OUTA (out), 2 INA- (in), 3 INA+ (in)
part B pins: 5 INB+ (in), 6 INB- (in), 7 OUTB (out)

## LMC6482AIN
designator U?
CMOS Dual Rail-to-Rail Input and Output Operational Amplifier; PartNumber: LMC6482AIN; Manufacturer: National Semiconductor; CompType: Amplifiers; PackageTopMarking: NSUZXYTT*LMC64*82AIN; Published: 4-Dec-2008; LatestRevisionDate: 13-Jan-2009; LatestRevisionNote: Sim Model Added.; DatasheetVersion: Sep-2003; PackageVersion: revG, May-2006; PackageReference: N08E; Publisher: Altium Limited; PackageDescription: MDIP, .365 x .250 x .130in, 8 Lead, .100in Pitch; RoHS: O; PinCount: 8; DigiKeyPartNumber: LMC6482AIN-ND; Code_JEDEC: MS-001-BA; ComponentLink1Description: LMC6482 Datasheet; ComponentLink1URL: http://www.national.com/ds/LM/LMC6482.pdf; ComponentLink2Description: LMC6482 Web Page; ComponentLink2URL: http://www.national.com/pf/LM/LMC6482.html; ComponentLink3Description: N08E Package Page; ComponentLink3URL: http://www.national.com/packaging/folders/n08e.html
footprint N08E (DIP, 8-Leads, Row Spacing 7.62mm, Pitch 2.54mm, Body 9.91x6.35mm)
simulation model LMC6482A (SUBCKT)
pins on every part: 4 V- (power), 8 V+ (power)
part A pins: 1 OUTA (out), 2 INA- (in), 3 INA+ (in)
part B pins: 5 INB+ (in), 6 INB- (in), 7 OUTB (out)

## LMC6482AMJ/883
designator U?
CMOS Dual Rail-to-Rail Input and Output Operational Amplifier; PartNumber: LMC6482AMJ/883; Manufacturer: National Semiconductor; CompType: Amplifiers; PackageTopMarking: NSZSSXXYYA*LMC6482AMJ/*883 Q 5962-*9453401MPA; Published: 4-Dec-2008; LatestRevisionDate: 13-Jan-2009; LatestRevisionNote: Sim Model Added.; DatasheetVersion: Sep-2003; PackageVersion: revM, Jul-2002; PackageReference: J08A; Publisher: Altium Limited; PackageDescription: Cerdip, .400 x .310in Body, 8 Lead, .300in Centers, .100in Pitch; RoHS: N; PinCount: 8; ComponentLink1Description: LMC6482 Datasheet; ComponentLink1URL: http://www.national.com/ds/LM/LMC6482.pdf; ComponentLink2Description: LMC6482 Web Page; ComponentLink2URL: http://www.national.com/pf/LM/LMC6482.html; ComponentLink3Description: J08A Package Page; ComponentLink3URL: http://www.national.com/packaging/folders/j08a.html
footprint J08A (DIP, 8-Leads, Row Spacing 7.62mm, Pitch 2.54mm, Body 9.78x6.73mm)
simulation model LMC6482A (SUBCKT)
pins on every part: 4 V- (power), 8 V+ (power)
part A pins: 1 OUTA (out), 2 INA- (in), 3 INA+ (in)
part B pins: 5 INB+ (in), 6 INB- (in), 7 OUTB (out)

## LMC6482IM
designator U?
CMOS Dual Rail-to-Rail Input and Output Operational Amplifier; PartNumber: LMC6482IM; Manufacturer: National Semiconductor; CompType: Amplifiers; PackageTopMarking: NSZXTT*LMC64*82IM; Published: 4-Dec-2008; LatestRevisionDate: 13-Jan-2009; LatestRevisionNote: Sim Model Added.; DatasheetVersion: Sep-2003; PackageVersion: revL, Sep-2006; PackageReference: M08A; Publisher: Altium Limited; PackageDescription: SOIC Narrow, 4.9 x 3.9 x 1.45mm, 8 Lead, 1.27mm Pitch; RoHS: O; PinCount: 8; DigiKeyPartNumber: LMC6482IMMCT-ND; Code_JEDEC: MS-012-AA; Code_IPC: SOIC127P600-8; ComponentLink1Description: LMC6482 Datasheet; ComponentLink1URL: http://www.national.com/ds/LM/LMC6482.pdf; ComponentLink2Description: LMC6482 Web Page; ComponentLink2URL: http://www.national.com/pf/LM/LMC6482.html; ComponentLink3Description: M08A Package Page; ComponentLink3URL: http://www.national.com/packaging/folders/m08a.html
footprint M08A_N (SOIC, 8-Leads, Body 4.9x3.9mm, Pitch 1.27mm, IPC Medium Density)
footprint M08A_L (SOIC, 8-Leads, Body 4.9x3.9mm, Pitch 1.27mm, IPC High Density)
footprint M08A_M (SOIC, 8-Leads, Body 4.9x3.9mm, Pitch 1.27mm, IPC Low Density)
simulation model LMC6482A (SUBCKT)
pins on every part: 4 V- (power), 8 V+ (power)
part A pins: 1 OUTA (out), 2 INA- (in), 3 INA+ (in)
part B pins: 5 INB+ (in), 6 INB- (in), 7 OUTB (out)

## LMC6482IMM
designator U?
CMOS Dual Rail-to-Rail Input and Output Operational Amplifier; PartNumber: LMC6482IMM; Manufacturer: National Semiconductor; CompType: Amplifiers; PackageTopMarking: ZXTT*A10; Published: 4-Dec-2008; LatestRevisionDate: 13-Jan-2009; LatestRevisionNote: Sim Model Added.; DatasheetVersion: Sep-2003; PackageVersion: revF, Apr-2008; PackageReference: MUA08A; Publisher: Altium Limited; PackageDescription: MINI SOIC, .118 x .118 x .034in, 8 Lead, .0256in Pitch; RoHS: O; PinCount: 8; DigiKeyPartNumber: LMC6482IMMCT-ND; Code_JEDEC: MO-187-AA; ComponentLink1Description: LMC6482 Datasheet; ComponentLink1URL: http://www.national.com/ds/LM/LMC6482.pdf; ComponentLink2Description: LMC6482 Web Page; ComponentLink2URL: http://www.national.com/pf/LM/LMC6482.html; ComponentLink3Description: MUA08A Package Page; ComponentLink3URL: http://www.national.com/packaging/folders/mua08a.html
footprint MUA08A_N (TSOP, 8-Leads, Body 3x3mm, Pitch 0.65mm, IPC Medium Density)
footprint MUA08A_L (TSOP, 8-Leads, Body 3x3mm, Pitch 0.65mm, IPC High Density)
footprint MUA08A_M (TSOP, 8-Leads, Body 3x3mm, Pitch 0.65mm, IPC Low Density)
simulation model LMC6482A (SUBCKT)
pins on every part: 4 V- (power), 8 V+ (power)
part A pins: 1 OUTA (out), 2 INA- (in), 3 INA+ (in)
part B pins: 5 INB+ (in), 6 INB- (in), 7 OUTB (out)

## LMC6482IN
designator U?
CMOS Dual Rail-to-Rail Input and Output Operational Amplifier; PartNumber: LMC6482IN; Manufacturer: National Semiconductor; CompType: Amplifiers; PackageTopMarking: NSUZXYTT*LMC6482IN; Published: 4-Dec-2008; LatestRevisionDate: 13-Jan-2009; LatestRevisionNote: Sim Model Added.; DatasheetVersion: Sep-2003; PackageVersion: revG, May-2006; PackageReference: N08E; Publisher: Altium Limited; PackageDescription: MDIP, .365 x .250 x .130in, 8 Lead, .100in Pitch; RoHS: O; PinCount: 8; DigiKeyPartNumber: LMC6482IN-ND; Code_JEDEC: MS-001-BA; ComponentLink1Description: LMC6482 Datasheet; ComponentLink1URL: http://www.national.com/ds/LM/LMC6482.pdf; ComponentLink2Description: LMC6482 Web Page; ComponentLink2URL: http://www.national.com/pf/LM/LMC6482.html; ComponentLink3Description: N08E Package Page; ComponentLink3URL: http://www.national.com/packaging/folders/n08e.html
footprint N08E (DIP, 8-Leads, Row Spacing 7.62mm, Pitch 2.54mm, Body 9.91x6.35mm)
simulation model LMC6482A (SUBCKT)
pins on every part: 4 V- (power), 8 V+ (power)
part A pins: 1 OUTA (out), 2 INA- (in), 3 INA+ (in)
part B pins: 5 INB+ (in), 6 INB- (in), 7 OUTB (out)

## LMC6484AIM
designator U?
CMOS Quad Rail to Rail Input and Output Operational Amplifier; PartNumber: LMC6484AIM; Manufacturer: National Semiconductor; CompType: Amplifiers; PackageTopMarking: NSUZXYTT*LMC6484*AIM; Published: 4-Dec-2008; LatestRevisionDate: 13-Jan-2009; LatestRevisionNote: Sim Model Added.; DatasheetVersion: Aug-2000; PackageVersion: revJ, Jan-1996; PackageReference: M14A; Publisher: Altium Limited; PackageDescription: Molded Package S.O., .150in Wide, 14 Lead; RoHS: O; PinCount: 14; DigiKeyPartNumber: LMC6484AIMXCT-ND; Code_JEDEC: MS-012AB; Code_IPC: SOIC127P600-14; ComponentLink1Description: LMC6484 Datasheet; ComponentLink1URL: http://www.national.com/ds/LM/LMC6484.pdf; ComponentLink2Description: LMC6484 Web Page; ComponentLink2URL: http://www.national.com/pf/LM/LMC6484.html; ComponentLink3Description: M14A Package Page; ComponentLink3URL: http://www.national.com/packaging/folders/m14a.html
footprint M14A_N (SOIC, 14-Leads, Body 8.6x3.9mm, Pitch 1.27mm, IPC Medium Density)
footprint M14A_L (SOIC, 14-Leads, Body 8.6x3.9mm, Pitch 1.27mm, IPC High Density)
footprint M14A_M (SOIC, 14-Leads, Body 8.6x3.9mm, Pitch 1.27mm, IPC Low Density)
simulation model LMC6484A (SUBCKT)
pins on every part: 4 V+ (power), 11 V- (power)
part A pins: 1 OUT1 (out), 2 IN1- (in), 3 IN1+ (in)
part B pins: 5 IN2+ (in), 6 IN2- (in), 7 OUT2 (out)
part C pins: 8 OUT3 (out), 9 IN3- (in), 10 IN3+ (in)
part D pins: 12 IN4+ (in), 13 IN4- (in), 14 OUT4 (out)

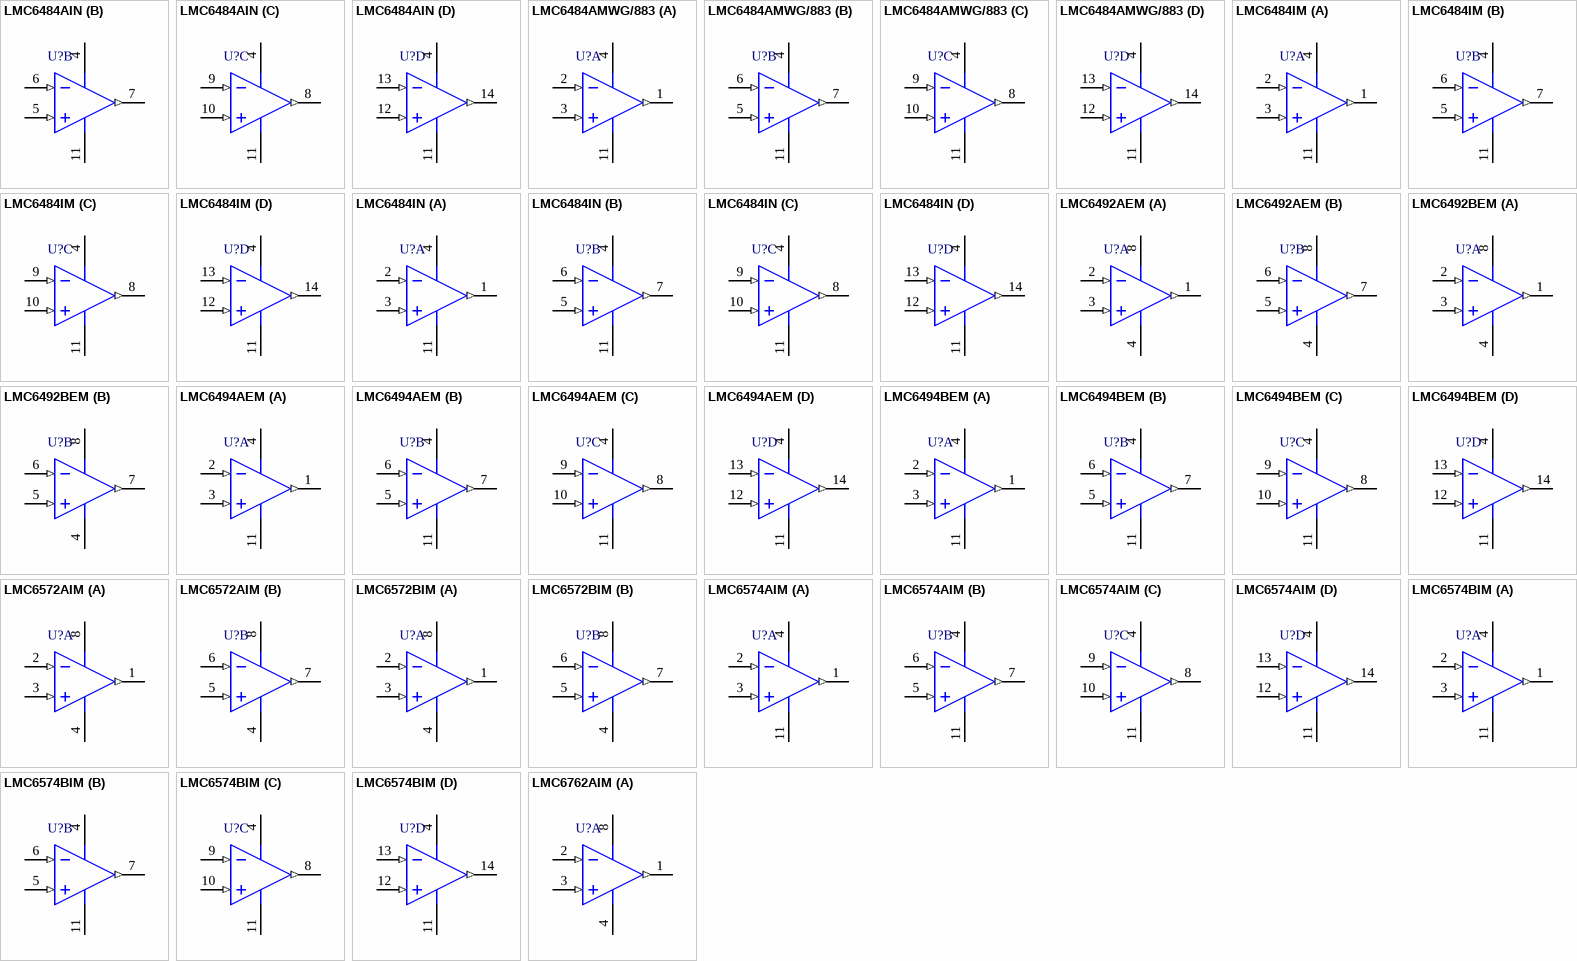
[diagram p22: symbols LMC6484AIN to LMC6762AIM]

## LMC6484AIN
designator U?
CMOS Quad Rail to Rail Input and Output Operational Amplifier; PartNumber: LMC6484AIN; Manufacturer: National Semiconductor; CompType: Amplifiers; PackageTopMarking: NSUZXYYTTE#*LMC6484AIN; Published: 4-Dec-2008; LatestRevisionDate: 13-Jan-2009; LatestRevisionNote: Sim Model Added.; DatasheetVersion: Aug-2000; PackageVersion: revG, May-2006; PackageReference: N14A; Publisher: Altium Limited; PackageDescription: MDIP, .750 x .250 x.130in, 14 Lead, .100in Pitch; RoHS: O; PinCount: 14; DigiKeyPartNumber: LMC6484AIN-ND; Code_JEDEC: MS-001-AA; ComponentLink1Description: LMC6484 Datasheet; ComponentLink1URL: http://www.national.com/ds/LM/LMC6484.pdf; ComponentLink2Description: LMC6484 Web Page; ComponentLink2URL: http://www.national.com/pf/LM/LMC6484.html; ComponentLink3Description: N14A Package Page; ComponentLink3URL: http://www.national.com/packaging/folders/n14a.html
footprint N14A (DIP, 14-Leads, Row Spacing 7.62mm, Pitch 2.54mm, Body 19.56x6.35mm)
simulation model LMC6484A (SUBCKT)
pins on every part: 4 V+ (power), 11 V- (power)
part A pins: 1 OUT1 (out), 2 IN1- (in), 3 IN1+ (in)
part B pins: 5 IN2+ (in), 6 IN2- (in), 7 OUT2 (out)
part C pins: 8 OUT3 (out), 9 IN3- (in), 10 IN3+ (in)
part D pins: 12 IN4+ (in), 13 IN4- (in), 14 OUT4 (out)

## LMC6484AMWG/883
designator U?
CMOS Quad Rail to Rail Input and Output Operational Amplifier; PartNumber: LMC6484AMWG/883; Manufacturer: National Semiconductor; CompType: Amplifiers; PackageTopMarking: NSZSSXXYYA*LMC6484AMWG*/883 5962-*9453402QXA Q; Published: 4-Dec-2008; DatasheetVersion: Aug-2000; PackageVersion: revD, Jul-2007; PackageReference: WG14A; Publisher: Altium Limited; PackageDescription: Cerpack, .390 x .250 x .070in, 14 Lead, .050in Pitch, Gull Wing; RoHS: N; PinCount: 14; ComponentLink1Description: LMC6484 Datasheet; ComponentLink1URL: http://www.national.com/ds/LM/LMC6484.pdf; ComponentLink2Description: LMC6484 Web Page; ComponentLink2URL: http://www.national.com/pf/LM/LMC6484.html; ComponentLink3Description: WG14A Package Page; ComponentLink3URL: http://www.national.com/packaging/folders/wg14a.html
footprint WG14A_N (CERPACK, 14-Leads, Body 9.9x6.5mm, Pitch 1.27mm, IPC Medium Density)
footprint WG14A_L (CERPACK, 14-Leads, Body 9.9x6.5mm, Pitch 1.27mm, IPC High Density)
footprint WG14A_M (CERPACK, 14-Leads, Body 9.9x6.5mm, Pitch 1.27mm, IPC Low Density)
pins on every part: 4 V+ (power), 11 V- (power)
part A pins: 1 OUT1 (out), 2 IN1- (in), 3 IN1+ (in)
part B pins: 5 IN2+ (in), 6 IN2- (in), 7 OUT2 (out)
part C pins: 8 OUT3 (out), 9 IN3- (in), 10 IN3+ (in)
part D pins: 12 IN4+ (in), 13 IN4- (in), 14 OUT4 (out)

## LMC6484IM
designator U?
CMOS Quad Rail to Rail Input and Output Operational Amplifier; PartNumber: LMC6484IM; Manufacturer: National Semiconductor; CompType: Amplifiers; PackageTopMarking: NSUZXYTT*LMC6484IM; Published: 4-Dec-2008; LatestRevisionDate: 13-Jan-2009; LatestRevisionNote: Sim Model Added.; DatasheetVersion: Aug-2000; PackageVersion: revJ, Jan-1996; PackageReference: M14A; Publisher: Altium Limited; PackageDescription: Molded Package S.O., .150in Wide, 14 Lead; RoHS: O; PinCount: 14; DigiKeyPartNumber: LMC6484IM-ND; Code_JEDEC: MS-012AB; Code_IPC: SOIC127P600-14; ComponentLink1Description: LMC6484 Datasheet; ComponentLink1URL: http://www.national.com/ds/LM/LMC6484.pdf; ComponentLink2Description: LMC6484 Web Page; ComponentLink2URL: http://www.national.com/pf/LM/LMC6484.html; ComponentLink3Description: M14A Package Page; ComponentLink3URL: http://www.national.com/packaging/folders/m14a.html
footprint M14A_N (SOIC, 14-Leads, Body 8.6x3.9mm, Pitch 1.27mm, IPC Medium Density)
footprint M14A_L (SOIC, 14-Leads, Body 8.6x3.9mm, Pitch 1.27mm, IPC High Density)
footprint M14A_M (SOIC, 14-Leads, Body 8.6x3.9mm, Pitch 1.27mm, IPC Low Density)
simulation model LMC6484A (SUBCKT)
pins on every part: 4 V+ (power), 11 V- (power)
part A pins: 1 OUT1 (out), 2 IN1- (in), 3 IN1+ (in)
part B pins: 5 IN2+ (in), 6 IN2- (in), 7 OUT2 (out)
part C pins: 8 OUT3 (out), 9 IN3- (in), 10 IN3+ (in)
part D pins: 12 IN4+ (in), 13 IN4- (in), 14 OUT4 (out)

## LMC6484IN
designator U?
CMOS Quad Rail to Rail Input and Output Operational Amplifier; PartNumber: LMC6484IN; Manufacturer: National Semiconductor; CompType: Amplifiers; PackageTopMarking: NSUZXYYTTE#*LMC6484IN; Published: 4-Dec-2008; LatestRevisionDate: 13-Jan-2009; LatestRevisionNote: Sim Model Added.; DatasheetVersion: Aug-2000; PackageVersion: revG, May-2006; PackageReference: N14A; Publisher: Altium Limited; PackageDescription: MDIP, .750 x .250 x.130in, 14 Lead, .100in Pitch; RoHS: O; PinCount: 14; DigiKeyPartNumber: LMC6484IN-ND; Code_JEDEC: MS-001-AA; ComponentLink1Description: LMC6484 Datasheet; ComponentLink1URL: http://www.national.com/ds/LM/LMC6484.pdf; ComponentLink2Description: LMC6484 Web Page; ComponentLink2URL: http://www.national.com/pf/LM/LMC6484.html; ComponentLink3Description: N14A Package Page; ComponentLink3URL: http://www.national.com/packaging/folders/n14a.html
footprint N14A (DIP, 14-Leads, Row Spacing 7.62mm, Pitch 2.54mm, Body 19.56x6.35mm)
simulation model LMC6484A (SUBCKT)
pins on every part: 4 V+ (power), 11 V- (power)
part A pins: 1 OUT1 (out), 2 IN1- (in), 3 IN1+ (in)
part B pins: 5 IN2+ (in), 6 IN2- (in), 7 OUT2 (out)
part C pins: 8 OUT3 (out), 9 IN3- (in), 10 IN3+ (in)
part D pins: 12 IN4+ (in), 13 IN4- (in), 14 OUT4 (out)

## LMC6492AEM
designator U?
Dual CMOS Rail-to-Rail Input and Output Operational Amplifier; PartNumber: LMC6492AEM; Manufacturer: National Semiconductor; CompType: Amplifiers; PackageTopMarking: NSZXTT*LMC64*92AEM; Published: 4-Dec-2008; LatestRevisionDate: 13-Jan-2009; LatestRevisionNote: Sim Model Added.; DatasheetVersion: Aug-2000; PackageVersion: revL, Sep-2006; PackageReference: M08A; Publisher: Altium Limited; PackageDescription: SOIC Narrow, 4.9 x 3.9 x 1.45mm, 8 Lead, 1.27mm Pitch; RoHS: O; PinCount: 8; DigiKeyPartNumber: LMC6492AEM-ND; Code_JEDEC: MS-012-AA; Code_IPC: SOIC127P600-8; ComponentLink1Description: LMC6492 Datasheet; ComponentLink1URL: http://www.national.com/ds/LM/LMC6492.pdf; ComponentLink2Description: LMC6492 Web Page; ComponentLink2URL: http://www.national.com/pf/LM/LMC6492.html; ComponentLink3Description: M08A Package Page; ComponentLink3URL: http://www.national.com/packaging/folders/m08a.html
footprint M08A_N (SOIC, 8-Leads, Body 4.9x3.9mm, Pitch 1.27mm, IPC Medium Density)
footprint M08A_L (SOIC, 8-Leads, Body 4.9x3.9mm, Pitch 1.27mm, IPC High Density)
footprint M08A_M (SOIC, 8-Leads, Body 4.9x3.9mm, Pitch 1.27mm, IPC Low Density)
simulation model LMC6492A (SUBCKT)
pins on every part: 4 V- (power), 8 V+ (power)
part A pins: 1 OUTA (out), 2 INA- (in), 3 INA+ (in)
part B pins: 5 INB+ (in), 6 INB- (in), 7 OUTB (out)

## LMC6492BEM
designator U?
Dual CMOS Rail-to-Rail Input and Output Operational Amplifier; PartNumber: LMC6492BEM; Manufacturer: National Semiconductor; CompType: Amplifiers; PackageTopMarking: NSZXTT*LMC64*92BEM; Published: 4-Dec-2008; LatestRevisionDate: 13-Jan-2009; LatestRevisionNote: Sim Model Added.; DatasheetVersion: Aug-2000; PackageVersion: revL, Sep-2006; PackageReference: M08A; Publisher: Altium Limited; PackageDescription: SOIC Narrow, 4.9 x 3.9 x 1.45mm, 8 Lead, 1.27mm Pitch; RoHS: O; PinCount: 8; DigiKeyPartNumber: LMC6492BEMXCT-ND; Code_JEDEC: MS-012-AA; Code_IPC: SOIC127P600-8; ComponentLink1Description: LMC6492 Datasheet; ComponentLink1URL: http://www.national.com/ds/LM/LMC6492.pdf; ComponentLink2Description: LMC6492 Web Page; ComponentLink2URL: http://www.national.com/pf/LM/LMC6492.html; ComponentLink3Description: M08A Package Page; ComponentLink3URL: http://www.national.com/packaging/folders/m08a.html
footprint M08A_N (SOIC, 8-Leads, Body 4.9x3.9mm, Pitch 1.27mm, IPC Medium Density)
footprint M08A_L (SOIC, 8-Leads, Body 4.9x3.9mm, Pitch 1.27mm, IPC High Density)
footprint M08A_M (SOIC, 8-Leads, Body 4.9x3.9mm, Pitch 1.27mm, IPC Low Density)
simulation model LMC6492B (SUBCKT)
pins on every part: 4 V- (power), 8 V+ (power)
part A pins: 1 OUTA (out), 2 INA- (in), 3 INA+ (in)
part B pins: 5 INB+ (in), 6 INB- (in), 7 OUTB (out)